# Altium footprint library PCB - POWER INDUCTORS - WURTH WE-HCI 2212.PcbLib: 1 footprints
Each footprint in its own frame and in the unit in brackets; x right, y up, seen from the top. Pads: shape width x height; smd on the part's side, far side on the other; paste and mask are expansions set on the pad; w line width, h text height; cw(c..) or ccw(c..) is an arc to the next point about the centre after c.
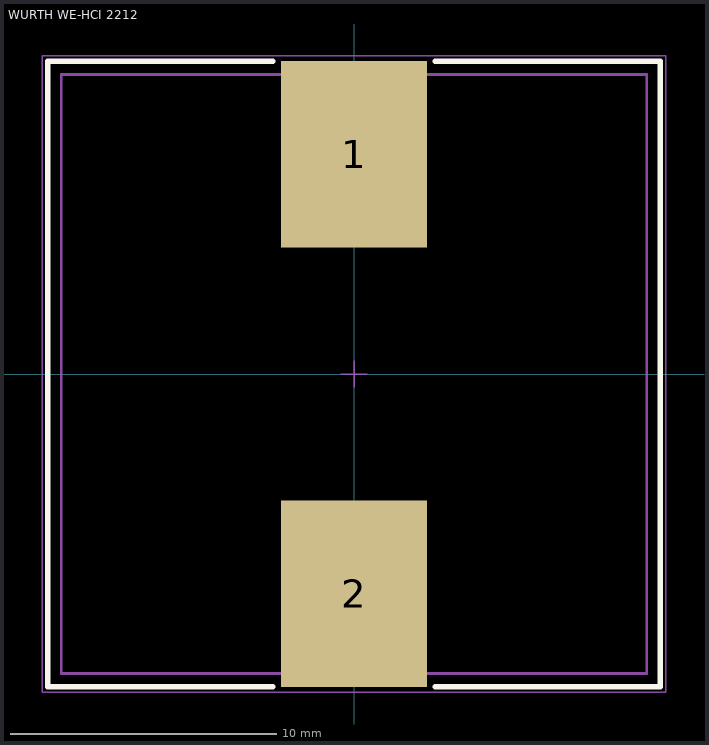
[diagram p0: the footprint, top view; thin cyan lines are the x and y axes]

## WURTH WE-HCI 2212 [mm] "SMT Flat Wire High Current Inductor, body 22x22.5mm"
height 12
pads (2):
  rect 5.5x7 smd: 1(0,8.25) 2(0,-8.25)
Top Overlay:
  lines w0.2: -3.05,-11.75 -11.5,-11.75 -11.5,11.75 -3.05,11.75 ; 3.05,-11.75 11.5,-11.75 11.5,11.75 3.05,11.75
Top Assembly:
  lines w0.1: -11,-11.25 -11,11.25 11,11.25 11,-11.25 -11,-11.25
Top Component Outline:
  lines w0.1: -11,-11.25 -11,11.25 11,11.25 11,-11.25 -11,-11.25
Top Courtyard:
  lines w0.05: -0.5,0 0.5,0 ; 0,-0.5 0,0.5 ; -11.7,-11.95 11.7,-11.95 11.7,11.95 -11.7,11.95 -11.7,-11.95
3D body "7443558xxxx.stp": height 12, standoff 0, extent -11,-11.25 11,11.25